# EAGLE library part GENERIC-2X5 (library p.peter-connectors)
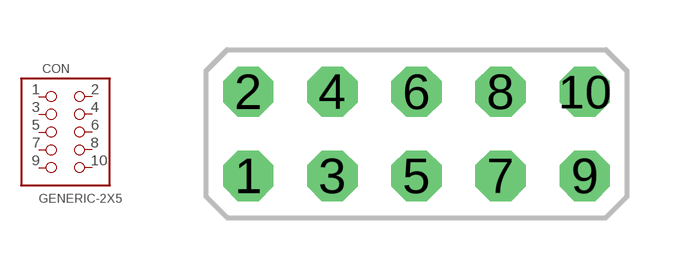
[diagram p12: symbol with the pads of PINHEADER-100MIL-2X5-NOSILK; footprint PINHEADER-100MIL-2X5-NOSILK]

Designator prefix CON

## GENERIC-2X5  [PINHEADER-100MIL-2X5-NOSILK]
1  1
2  2
3  3
4  4
5  5
6  6
7  7
8  8
9  9
10  10

## Footprint PINHEADER-100MIL-2X5-NOSILK (pad centres in mm)
drill 1.016 octagon: 1 -5.08,-1.27; 2 -5.08,1.27; 3 -2.54,-1.27; 4 -2.54,1.27; 5 0,-1.27; 6 0,1.27; 7 2.54,-1.27; 8 2.54,1.27; 9 5.08,-1.27; 10 5.08,1.27